# Altium footprint library SOT-23-3.PcbLib: 1 footprints
Each footprint in its own frame and in the unit in brackets; x right, y up, seen from the top. Pads: shape width x height; smd on the part's side, far side on the other; paste and mask are expansions set on the pad; w line width, h text height; cw(c..) or ccw(c..) is an arc to the next point about the centre after c.
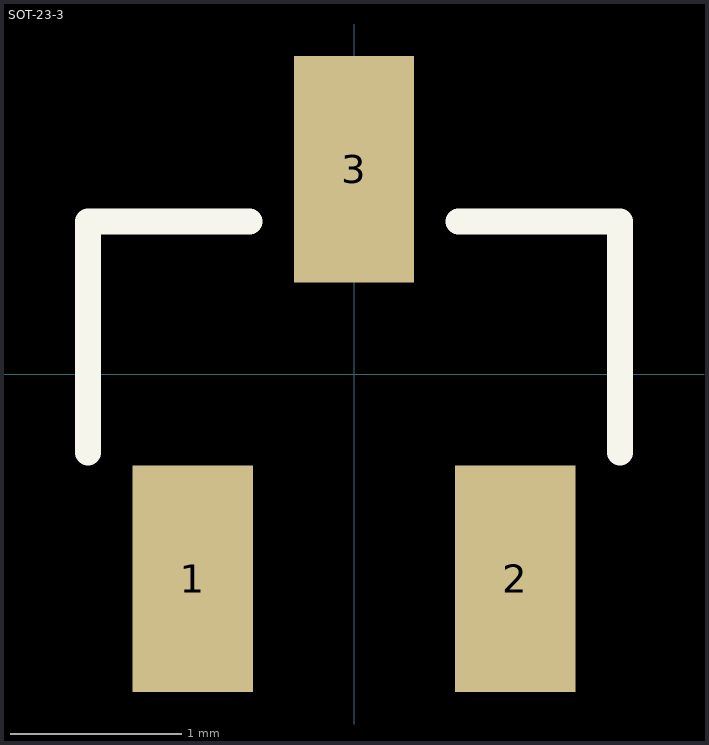
[diagram p0: the footprint, top view; thin cyan lines are the x and y axes]

## SOT-23-3 [mil]
pads (3):
  rect 27.56x52 smd: 1(-37,-47) 2(37,-47) 3(0,47)
Top Overlay:
  lines w6: -61,-18 -61,35 -24,35 ; 24,35 61,35 61,-18
3D body "CircuitWorks-SOT-23.step": height 42.13, standoff -1.18, extent -59.06,-44.21 59.06,54.21